# Altium footprint library BMM350.PcbLib: 3 footprints
Each footprint in its own frame and in the unit in brackets; x right, y up, seen from the top. Pads: shape width x height; smd on the part's side, far side on the other; paste and mask are expansions set on the pad; w line width, h text height; cw(c..) or ccw(c..) is an arc to the next point about the centre after c.
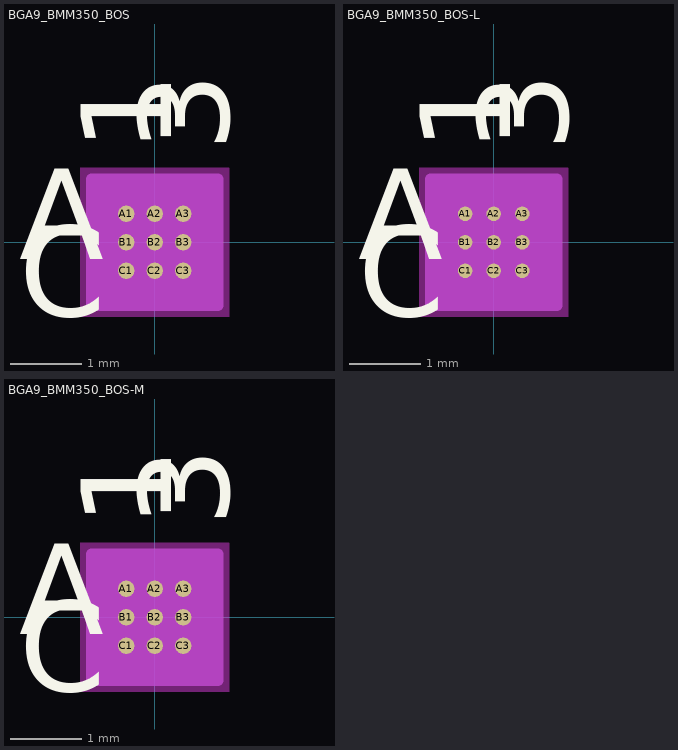
[diagram p0: the footprints below, top view; thin cyan lines are the x and y axes]

## BGA9_BMM350_BOS [mil]
pads (9):
  round 9 smd paste+0 mask+0: A1(-15.75,15.75) A2(0,15.75) A3(15.75,15.75) B1(-15.75,0) B2(0,0) B3(15.75,0) C1(-15.75,-15.75) C2(0,-15.75) C3(15.75,-15.75)
Top Overlay:
  text "A" at -75,-9.25 h50
  text "C" at -75,-40.75 h50
  text "1" at 9.25,50 h50
  text "3" at 40.75,50 h50
Bottom Overlay:
  text "A" at -50,-9.25 h50
  text "C" at -50,-40.75 h50
  text "1" at -40.75,50 h50
  text "3" at -9.25,50 h50
Keep-Out Layer:
  region: -41.12,-41.12 -41.12,41.12 41.12,41.12 41.12,-41.12
Mechanical 13:
  lines w1: -25,17.12 -17.12,25 ; -25,-25 25,-25 25,25 -25,25 -25,-25
  text "A" at -75,-9.25 h50
  text "C" at -75,-40.75 h50
  text "1" at 9.25,50 h50
  text "3" at 40.75,50 h50
Mechanical 15:
  region: 35,-35 -35,-35 -35,35 35,35
  lines w6: -35,-35 -35,35 35,35 35,-35 -35,-35
3D body "BGA9_BMM350_BOS.step": height 21.1, standoff 0.01, extent -25,-25 25,25

## BGA9_BMM350_BOS-L [mil]
pads (9):
  round 8 smd paste+0 mask+0: A1(-15.75,15.75) A2(0,15.75) A3(15.75,15.75) B1(-15.75,0) B2(0,0) B3(15.75,0) C1(-15.75,-15.75) C2(0,-15.75) C3(15.75,-15.75)
Top Overlay:
  text "A" at -75,-9.25 h50
  text "C" at -75,-40.75 h50
  text "1" at 9.25,50 h50
  text "3" at 40.75,50 h50
Bottom Overlay:
  text "A" at -50,-9.25 h50
  text "C" at -50,-40.75 h50
  text "1" at -40.75,50 h50
  text "3" at -9.25,50 h50
Keep-Out Layer:
  region: -41.12,-41.12 -41.12,41.12 41.12,41.12 41.12,-41.12
Mechanical 13:
  lines w1: -25,17.12 -17.12,25 ; -25,-25 25,-25 25,25 -25,25 -25,-25
  text "A" at -75,-9.25 h50
  text "C" at -75,-40.75 h50
  text "1" at 9.25,50 h50
  text "3" at 40.75,50 h50
Mechanical 15:
  region: 35,-35 -35,-35 -35,35 35,35
  lines w6: -35,-35 -35,35 35,35 35,-35 -35,-35
3D body "BGA9_BMM350_BOS.step": height 21.1, standoff 0.01, extent -25,-25 25,25

## BGA9_BMM350_BOS-M [mil]
pads (9):
  round 9 smd paste+0 mask+0: A1(-15.75,15.75) A2(0,15.75) A3(15.75,15.75) B1(-15.75,0) B2(0,0) B3(15.75,0) C1(-15.75,-15.75) C2(0,-15.75) C3(15.75,-15.75)
Top Overlay:
  text "A" at -75,-9.25 h50
  text "C" at -75,-40.75 h50
  text "1" at 9.25,50 h50
  text "3" at 40.75,50 h50
Bottom Overlay:
  text "A" at -50,-9.25 h50
  text "C" at -50,-40.75 h50
  text "1" at -40.75,50 h50
  text "3" at -9.25,50 h50
Keep-Out Layer:
  region: -41.12,-41.12 -41.12,41.12 41.12,41.12 41.12,-41.12
Mechanical 13:
  lines w1: -25,17.12 -17.12,25 ; -25,-25 25,-25 25,25 -25,25 -25,-25
  text "A" at -75,-9.25 h50
  text "C" at -75,-40.75 h50
  text "1" at 9.25,50 h50
  text "3" at 40.75,50 h50
Mechanical 15:
  region: 35,-35 -35,-35 -35,35 35,35
  lines w6: -35,-35 -35,35 35,35 35,-35 -35,-35
3D body "BGA9_BMM350_BOS.step": height 21.1, standoff 0.01, extent -25,-25 25,25